# EAGLE library part DF11-16-2DSA (library con-hirose-df11)
HEADER
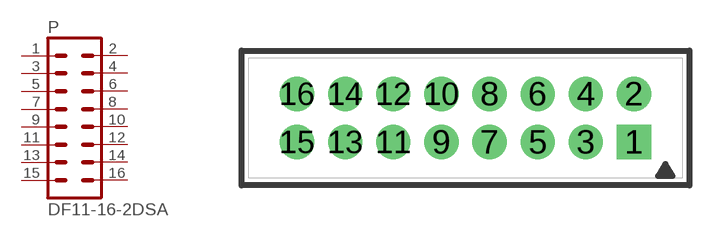
[diagram p5: symbol with the pads of DF11-16DP-2DSA; footprint DF11-16DP-2DSA]

Designator prefix P

## DF11-16-2DSA  [DF11-16DP-2DSA]
1  1  pas
2  2  pas
3  3  pas
4  4  pas
5  5  pas
6  6  pas
7  7  pas
8  8  pas
9  9  pas
10  10  pas
11  11  pas
12  12  pas
13  13  pas
14  14  pas
15  15  pas
16  16  pas

## Footprint DF11-16DP-2DSA (pad centres in mm)
HEADER
drill 0.914 square: 1 7,-1
drill 0.914: 2 7,1; 3 5,-1; 4 5,1; 5 3,-1; 6 3,1; 7 1,-1; 8 1,1; 9 -1,-1; 10 -1,1; 11 -3,-1; 12 -3,1; 13 -5,-1; 14 -5,1; 15 -7,-1; 16 -7,1